# Altium schematic symbol library co2_meter_schematic_library.SchLib: 16 symbols
Pins are listed as number, name and electrical type; pins without a type are passive.

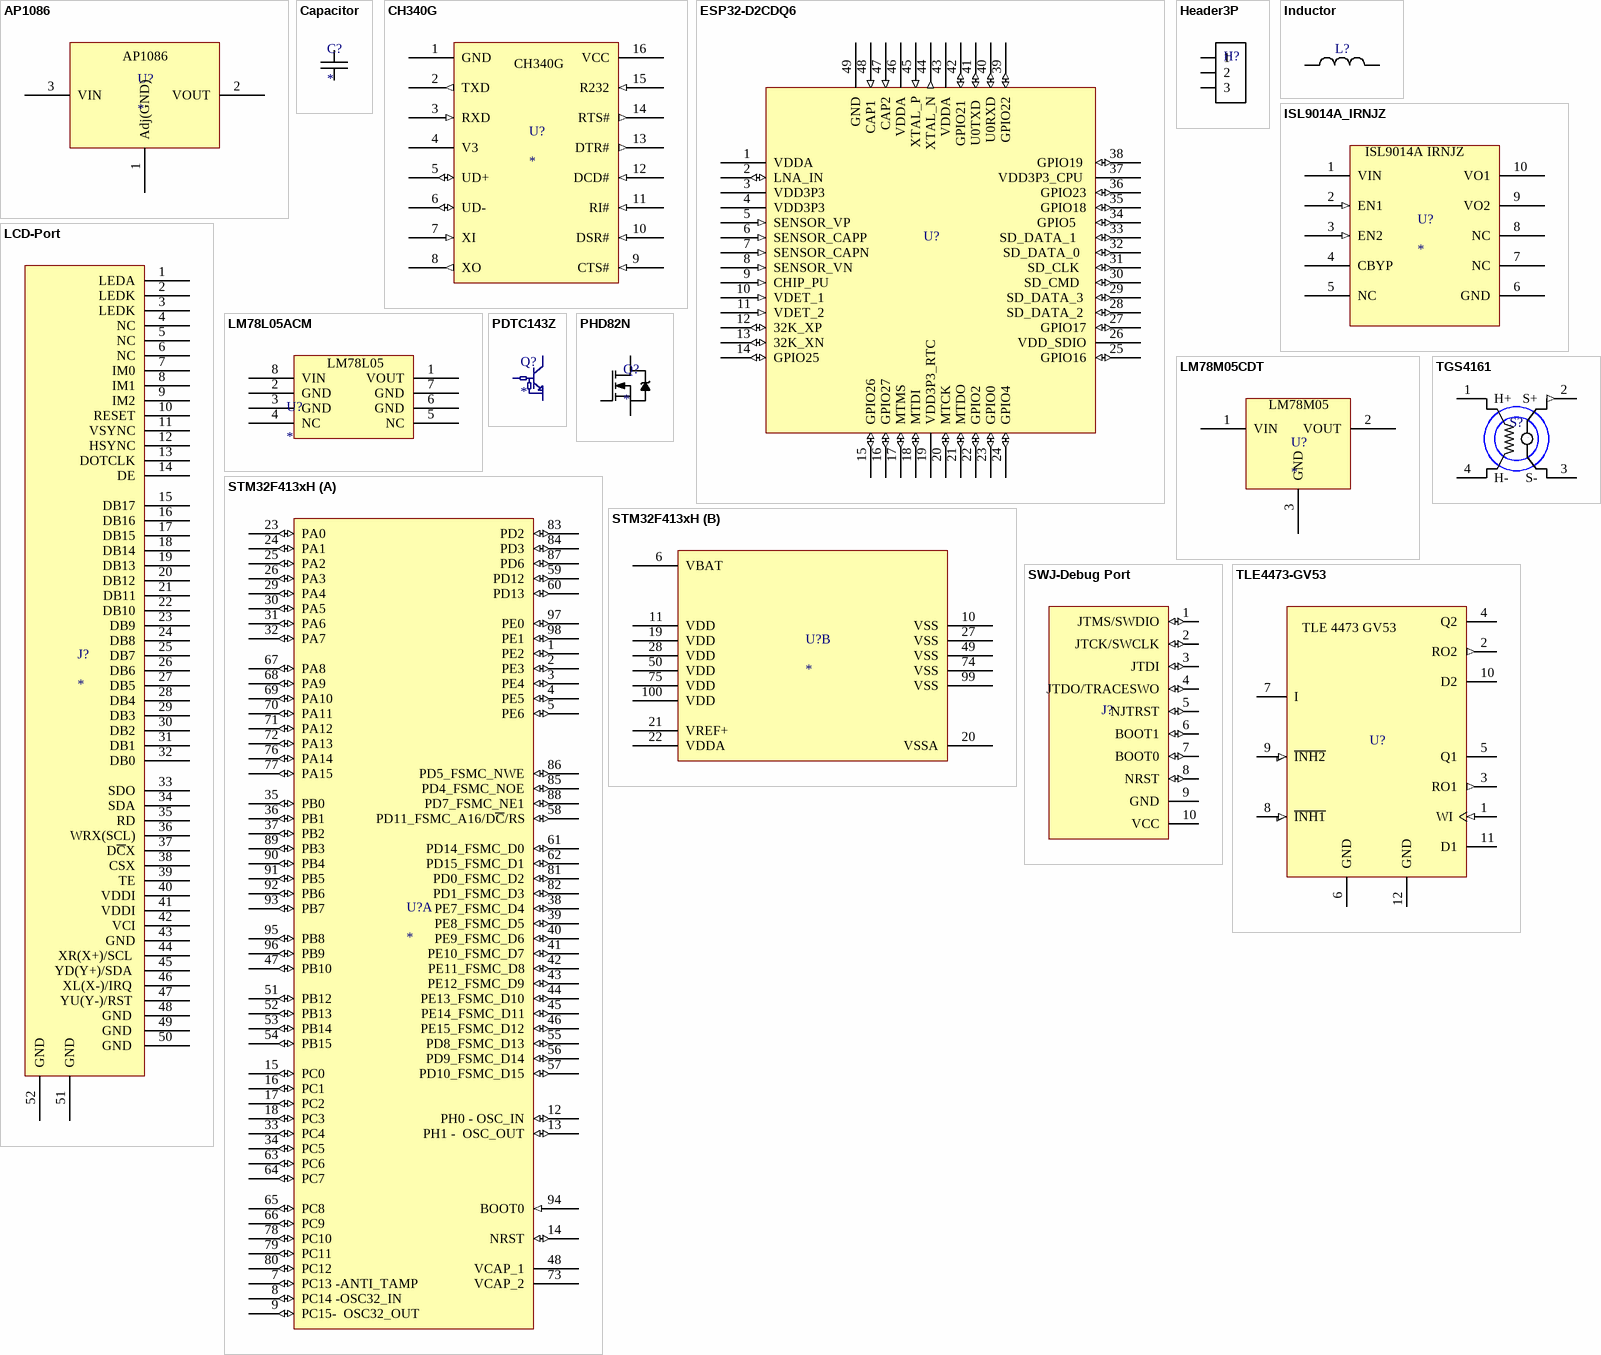
[diagram p0: symbols AP1086 to TLE4473-GV53]

## AP1086
designator U?
footprint TO263-3L (D-PAK/TO-263-3; 3 Leads (1 Cropped); Body 14.7 (inc. leads) x 10.2 mm (LxW max))
pins: 1 Adj(GND) (power) "Adjustable (Ground only for fixed mode)", 2 VOUT (power) "The output of the regulator. A minimum of 10uF capacitor must be connected  from this pin to ground to insure stability", 3 VIN (power) "The input pin of regulator.  Must  always be 1.4V higher than VOUT in order for the device to regulate properly."

## Capacitor
designator C?
Capacitor
footprint Capacitor (Chip Capacitor, Body 1.6x0.8mm, EIA 0603, IPC Medium Density)
pins: 1, 2

## CH340G
designator U?
USB bus conversion chip
footprint SOP16
pins: 1 GND (power) "Public ground, ground connection for USB", 2 TXD (out) "Transmit asynchronous data output", 3 RXD (in) "Receive asynchronous data input, built-in configurable  pull-up and pull-down resistor", 4 V3 (power) "Connect to VCC to input external power when 3.3V power  supply, connect to 0.1uF decoupling capacitor when 5V  power supply", 5 UD+ (io) "USB signal", 6 UD- (io) "USB signal", 7 XI (in) "Input of crystal oscillator, connect to crystal  and capacitor", 8 XO (out) "Output of crystal oscillator, connect to crystal and capacitor", 9 CTS# (in) "MODEM liaison input signal, clear to send, active  low(high)", 10 DSR# (in) "MODEM liaison input signal, data set ready, active  low(high)", 11 RI# (in) "MODEM liaison input signal, ring indicator , active  low(high)", 12 DCD# (in) "MODEM liaison input signal, data carrier detect, active  low(high)", 13 DTR# (out) "MODEM liaison output signal, data terminal ready, active  low(high)", 14 RTS# (out) "MODEM liaison output signal, request to send, active  low(high)", 15 R232 (in) "Assistant RS232 enable, active high,  built-in pull-down resistor", 16 VCC (power) "Positive power input port, requires an external 0.1uF power  decoupling capacitor"

## ESP32-D2CDQ6
designator U?  (value not drawn)
footprint QFN40P600X600X90_HS-49N (QFN, 48-Leads, Body 6.00x6.00mm, Pitch 0.40mm, Thermal Pad 4.30x4.30mm, IPC Medium Density)
pins: 1 VDDA (power) "Analog power supply (2.3V ~ 3.6V)", 2 LNA_IN (io) "V", 3 VDD3P3 (power) "Power supply amplifier (2.3V ~ 3.6V)", 4 VDD3P3 (power) "Power supply amplifier (2.3V ~ 3.6V)", 5 SENSOR_VP (in) "GPIO36, ADC_PRE_AMP, ADC1_CH0, RTC_GPIO0", 6 SENSOR_CAPP (in) "GPIO37, ADC_PRE_AMP, ADC1_CH1, RTC_GPIO1", 7 SENSOR_CAPN (in) "GPIO38, ADC1_CH2, ADC_PRE_AMP, RTC_GPIO2", 8 SENSOR_VN (in) "GPIO39, ADC1_CH3, ADC_PRE_AMP, RTC_GPIO3", 9 CHIP_PU (in) "Chip Enable (Active High)", 10 VDET_1 (in) "GPIO34, ADC1_CH6, RTC_GPIO4", 11 VDET_2 (in) "GPIO35, ADC1_CH7, RTC_GPIO5", 12 32K_XP (io) "GPIO32, 32K_XP (32.768 kHz crystal oscillator input),  ADC1_CH4, TOUCH9, RTC_GPIO9", 13 32K_XN (io) "GPIO33, 32K_XN (32.768 kHz crystal oscillator output),  ADC1_CH5, TOUCH8, RTC_GPIO8", 14 GPIO25 (io) "GPIO25, DAC_1, ADC2_CH8, RTC_GPIO6, EMAC_RXD0", 15 GPIO26 (io) "GPIO26, DAC_2, ADC2_CH9, RTC_GPIO7, EMAC_RXD1", 16 GPIO27 (io) "GPIO27, ADC2_CH7, TOUCH7, RTC_GPIO17, EMAC_RX_DV", 17 MTMS (io) "GPIO14, ADC2_CH6, TOUCH6, RTC_GPIO16, MTMS, HSPICLK,  HS2_CLK, SD_CLK, EMAC_TXD2", 18 MTDI (io) "GPIO12, ADC2_CH5, TOUCH5, RTC_GPIO15, MTDI, HSPIQ,  HS2_DATA2, SD_DATA2, EMAC_TXD3", 19 VDD3P3_RTC (power) "Input power supply for RTC IO (2.3 V ~ 3.6 V)", 20 MTCK (io) "GPIO13, ADC2_CH4, TOUCH4, RTC_GPIO14, MTCK, HSPID,  HS2_DATA3, SD_DATA3, EMAC_RX_ER", 21 MTDO (io) "GPIO15, ADC2_CH3, TOUCH3, RTC_GPIO13, MTDO, HSPICS0,  HS2_CMD, SD_CMD, EMAC_RXD3", 22 GPIO2 (io) "GPIO2, ADC2_CH2, TOUCH2, RTC_GPIO12, HSPIWP, HS2_DATA0,  SD_DATA0", 23 GPIO0 (io) "GPIO0, ADC2_CH1, TOUCH1, RTC_GPIO11, CLK_OUT1,  EMAC_TX_CLK", 24 GPIO4 (io) "GPIO4, ADC2_CH0, TOUCH0, RTC_GPIO10, HSPIHD, HS2_DATA1,  SD_DATA1, EMAC_TX_ER", 25 GPIO16 (io) "GPIO16, HS1_DATA4, U2RXD, EMAC_CLK_OUT", 26 VDD_SDIO (power) "Output power supply: 1.8 V or the same voltage as VDD3P3_RTC", 27 GPIO17 (io) "GPIO17, HS1_DATA5, U2TXD, EMAC_CLK_OUT_180", 28 SD_DATA_2  (io) "GPIO9, SD_DATA2, SPIHD, HS1_DATA2, U1RXD", 29 SD_DATA_3  (io) "GPIO10, SD_DATA3, SPIWP, HS1_DATA3, U1TXD", 30 SD_CMD   (io) "GPIO11, SD_CMD, SPICS0, HS1_CMD, U1RTS", 31 SD_CLK   (io) "GPIO6, SD_CLK, SPICLK, HS1_CLK, U1CTS", 32 SD_DATA_0   (io) "GPIO7, SD_DATA0, SPIQ, HS1_DATA0, U2RTS", 33 SD_DATA_1    (io) "GPIO8, SD_DATA1, SPID, HS1_DATA1, U2CTS", 34 GPIO5    (io) "GPIO5, VSPICS0, HS1_DATA6, EMAC_RX_CLK", 35 GPIO18 (io) "GPIO18, VSPICLK, HS1_DATA7", 36 GPIO23 (io) "GPIO23, VSPID, HS1_STROBE", 37 VDD3P3_CPU  (power) "Input power supply for CPU IO (1.8 V ~ 3.6 V)", 38 GPIO19  (io) "GPIO19, VSPIQ, U0CTS, EMAC_TXD0", 39 GPIO22 (io) "GPIO22, VSPIWP, U0RTS, EMAC_TXD1", 40 U0RXD (io) "GPIO3, U0RXD, CLK_OUT2", 41 U0TXD  (io) "GPIO1, U0TXD, CLK_OUT3, EMAC_RXD2", 42 GPIO21  (io) "GPIO21, VSPIHD, EMAC_TX_EN", 43 VDDA (power) "Analog power supply (2.3 V ~ 3.6 V)", 44 XTAL_N (out) "External crystal output", 45 XTAL_P (in) "External crystal input", 46 VDDA (power) "Analog power supply (2.3 V ~ 3.6 V", 47 CAP2 (in) "Connects to a 3 nF capacitor and 20 kΩ resistor in parallel to CAP1", 48 CAP1  (in) "Connects to a 10 nF series capacitor to ground", 49 GND (power) "Ground"

## Header3P
designator H?  (value not drawn)
Header, 2-pin
footprint HDR_1x3
pins: 1, 2, 3

## Inductor
designator L?  (value not drawn)
0603 Inductor
footprint INDUCTOR (Chip Ferrite, Body 1.6x0.8mm, 0603, IPC Medium Density)
pins: 1, 2

## ISL9014A_IRNJZ
designator U?
ISL9014A IRNJZ, Dual LDO, 3.3V and 2.8V, 300mA on both outputs
footprint 10LD3X3DFN (10 PIN DFPNL (DFN) Body 3x3mm, Pitch 0.50mm, IPC Medium Density)
pins: 1 VIN (power) "2.3-6.5V", 2 EN1 (in) "LDO-1 Enable.", 3 EN2 (in) "LDO-2 Enable.", 4 CBYP (power) "Reference Bypass Capacitor Pin", 5 NC "No Connection", 6 GND (power) "Connect to system ground. Connect to PCB Ground plane.", 7 NC "No Connection", 8 NC "No Connection", 9 VO2 (power) "LDO-2 Output: 2.8V 300mA", 10 VO1 (power) "LDO-1 Output: 3.3V 300mA"
text: ISL9014A IRNJZ

## LCD-Port
designator J?
3.5”TFT LCD Display Port (i80/6800/FSMC etc)
footprint ER-CON50HT-1 (50 pins 0.5mm pitch SMD horizontal type FPC ZIF)
pins: 1 LEDA (power) "Anode for LED backlighting", 2 LEDK (power) "Cathode for LED backlighting", 3 LEDK (power) "Cathode for LED backlighting", 4 NC "NO Connect", 5 NC "NO Connect", 6 NC "NO Connect", 7 IM0 "Select Interface Mode", 8 IM1 "Select Interface Mode", 9 IM2 "Select Interface Mode", 10 RESET "Reset Pin. Initialize the chip with a low input.", 11 VSYNC "Frame Synchronizing Signal For RGB Interface. Fix to DGND level when not in use.", 12 HSYNC "Line Synchronizing Signal For RGB Interface. Fix to DGND level when not in use.", 13 DOTCLK "Dot Clock Signal For RGB Interface. Fix to IOVCC level when not in use.", 14 DE "Data Enable Signal For RGB Interface. Fix to DGND level when not in use.", 15 DB17 "DATA BUS. Fix to DGND level when not in use.", 16 DB16 "DATA BUS. Fix to DGND level when not in use.", 17 DB15 "DATA BUS. Fix to DGND level when not in use.", 18 DB14 "DATA BUS. Fix to DGND level when not in use.", 19 DB13 "DATA BUS. Fix to DGND level when not in use.", 20 DB12 "DATA BUS. Fix to DGND level when not in use.", 21 DB11 "DATA BUS. Fix to DGND level when not in use.", 22 DB10 "DATA BUS. Fix to DGND level when not in use.", 23 DB9 "DATA BUS. Fix to DGND level when not in use.", 24 DB8 "DATA BUS. Fix to DGND level when not in use.", 25 DB7 "DATA BUS. Fix to DGND level when not in use.", 26 DB6 "DATA BUS. Fix to DGND level when not in use.", 27 DB5 "DATA BUS. Fix to DGND level when not in use.", 28 DB4 "DATA BUS. Fix to DGND level when not in use.", 29 DB3 "DATA BUS. Fix to DGND level when not in use.", 30 DB2 "DATA BUS. Fix to DGND level when not in use.", 31 DB1 "DATA BUS. Fix to DGND level when not in use.", 32 DB0 "DATA BUS. Fix to DGND level when not in use.", 33 SDO "Serial Output Signal. Leave the pin open when not in use.", 34 SDA "Serial interface : Serial input or serial data input/output bi-direction pin. Fix to DGND level when not in use.", 35 RD "Parallel interface：Read execution control pin. Fix to IOVCC when not in use.", 36 WRX(SCL) "Parallel interface：Write execution control pin ;  Serial interface :SCL pin as Serial Clock when operates in the serial interface  Fix to IOVCC when not in use.", 37 D~{C}X "Data/Command Selection pin. Fix to IOVCC when not in use.", 38 CSX "Chip Select Signal. Fix to IOVCC when not in use.", 39 TE "Tearing effect out pin synchronize MPU to frame writing. Leave the pin open when not in use.", 40 VDDI "Power Supply to the interface pins ,provide with 2.8V", 41 VDDI "Power Supply to the interface pins ,provide with 2.8V", 42 VCI "Logic power ,provide with 2.8V", 43 GND (power) "Ground", 44 XR(X+)/SCL  "Resistive touch panel output/ Capacitive touch SCL signal,I2C interface.", 45 YD(Y+)/SDA  "Resistive touch panel output/ Capacitive touch SDA signal, I2C interface", 46 XL(X-)/IRQ  "Resistive touch panel output /Capacitive touch pen interrupt signal when low.", 47 YU(Y-)/RST  "Resistive touch panel output/ Capacitive touch reset signal when low.", 48 GND  (power) "Ground", 49 GND  (power) "Ground", 50 GND  (power) "Ground", 51 GND (power) "Housing locker GND", 52 GND (power) "Housing locker GND"

## LM78L05ACM
designator U?
100-mA Fixed Output Linear Regulator
footprint SOIC_8 (SOIC 8 Pin)
pins: 1 VOUT (power) "Output voltage pin", 2 GND (power) "Ground", 3 GND (power) "Ground", 4 NC "No connection", 5 NC "No connection", 6 GND (power) "Ground", 7 GND (power) "Ground", 8 VIN  (power) "Input supply voltage pin"
text: LM78L05

## LM78M05CDT
designator U?
LM78L05
footprint TO-252 (NDP Package  3-Pin TO-252)
pins: 1 VIN  (power) "Input supply voltage pin", 2 VOUT (power) "Output supply voltage pin", 3 GND (power) "Ground"
text: LM78M05

## PDTC143Z
designator Q?
NPN Resistor-Equipped Transistor (RET)
footprint TO-236
pins: 1 B (power), 2 E (power), 3 C (power)

## PHD82N
designator Q?
PHD82N N-Channel MOSFET transistor
footprint TO-252_1
pins: 1 G, 2 S, 3 D

## STM32F413xH
designator U?
STM32F413VHT symbol for FSMC application with designated FSMC relevant pins
footprint LQFP100_STM32F4 (TSQFP, 100-Leads, Body 14.00x14.00mm, Pitch 0.50mm, IPC Medium Density)
part A pins: 1 PE2 (io), 2 PE3 (io), 3 PE4 (io), 4 PE5 (io), 5 PE6 (io), 7 PC13 -ANTI_TAMP (io), 8 PC14 -OSC32_IN (io), 9 PC15-  OSC32_OUT (io), 12 PH0 - OSC_IN (io), 13 PH1 -  OSC_OUT (io), 14 NRST (io), 15 PC0 (io), 16 PC1 (io), 17 PC2 (io), 18 PC3 (io), 23 PA0 (io), 24 PA1 (io), 25 PA2 (io), 26 PA3 (io), 29 PA4 (io), 30 PA5 (io), 31 PA6 (io), 32 PA7 (io), 33 PC4 (io), 34 PC5 (io), 35 PB0 (io), 36 PB1 (io), 37 PB2 (io), 38 PE7_FSMC_D4 (io), 39 PE8_FSMC_D5 (io), 40 PE9_FSMC_D6 (io), 41 PE10_FSMC_D7 (io), 42 PE11_FSMC_D8 (io), 43 PE12_FSMC_D9 (io), 44 PE13_FSMC_D10 (io), 45 PE14_FSMC_D11 (io), 46 PE15_FSMC_D12 (io), 47 PB10 (io), 48 VCAP_1 (power), 51 PB12 (io), 52 PB13 (io), 53 PB14 (io), 54 PB15 (io), 55 PD8_FSMC_D13 (io), 56 PD9_FSMC_D14 (io), 57 PD10_FSMC_D15 (io), 58 PD11_FSMC_A16/D~{C}/RS (io), 59 PD12 (io), 60 PD13 (io), 61 PD14_FSMC_D0 (io), 62 PD15_FSMC_D1 (io), 63 PC6 (io), 64 PC7 (io), 65 PC8 (io), 66 PC9 (io), 67 PA8 (io), 68 PA9 (io), 69 PA10 (io), 70 PA11 (io), 71 PA12 (io), 72 PA13 (io), 73 VCAP_2 (power), 76 PA14 (io), 77 PA15 (io), 78 PC10 (io), 79 PC11 (io), 80 PC12 (io), 81 PD0_FSMC_D2 (io), 82 PD1_FSMC_D3 (io), 83 PD2 (io), 84 PD3 (io), 85 PD4_FSMC_NOE (io), 86 PD5_FSMC_NWE (io), 87 PD6 (io), 88 PD7_FSMC_NE1 (io), 89 PB3 (io), 90 PB4 (io), 91 PB5 (io), 92 PB6 (io), 93 PB7 (io), 94 BOOT0 (in), 95 PB8 (io), 96 PB9 (io), 97 PE0 (io), 98 PE1 (io)
part B pins: 6 VBAT (power), 10 VSS (power), 11 VDD (power), 19 VDD (power), 20 VSSA (power), 21 VREF+ (power), 22 VDDA (power), 27 VSS (power), 28 VDD (power), 49 VSS (power), 50 VDD (power), 74 VSS (power), 75 VDD (power), 99 VSS (power), 100 VDD (power)

## SWJ-Debug Port
designator J?  (value not drawn)
10 pin Serial Wire JTAG Debug Port
footprint SWJ-DP connector (10 pin SWJ-DP PCB connector)
pins: 1 JTMS/SWDIO (io) "JTAG Test Mode Selection or Serial Wire Data Input/Output", 2 JTCK/SWCLK (io) "JTAG Test Clock or  Serial Wire Clock", 3 JTDI (io) "JTAG Test Data Input", 4 JTDO/TRACESWO (io) "JTAG Test Data Output or TRACESWO if async trace is enabled", 5 NJTRST (io) "JTAG Test nReset", 6 BOOT1 (io), 7 BOOT0 (io), 8 NRST (io) "BOOT0", 9 GND (power), 10 VCC (power)

## TGS4161
designator S?  (value not drawn)
Solid electrolyte type Carbon Dioxide sensor
footprint CO2_SENSOR (4 pin package for TGS4161 sensor)
pins: 1 H+ (power) "Heater (+)", 2 S+ (out) "Sensor electrode (+)", 3 S- "Sensor electrode (-)", 4 H- (power) "Heater (-)"

## TLE4473-GV53
designator U?  (value not drawn)
Dual Low Drop Voltage Regulator
footprint PG-DSO-12 (12 pin PG-DSO12 dual inline package with ground pad)
footprint PG-DSO-12NTS
pins: 1 WI (in) "Watchdog input. Input for watchdog pulses, positive edge  triggered", 2 RO2 (out) "Reset output for Q2. Open collector output", 3 RO1 (out) "Reset and watchdog output for Q1. Open collector output", 4 Q2 (power) "Output voltage 2 (5 V) Block to GND with a capacitor ≥ 22μF ESR<5Ω 10kHz or ≥ 10μF ESR<4Ω 10kHz", 5 Q1 (power) "Output voltage 1 (3.3 V) Block to GND with a capacitor ≥ 10μF ESR<5Ω 10kHz", 6 GND (power) "Not connected Connect to GND", 7 I (power) "Input voltage. Block to GND directly at the IC with a ceramic  capacitor", 8 ~{INH1} (in) "Inhibit input 1. Low level at INH2 and INH1 disables Q2 and Q1", 9 ~{INH2} (in) "Inhibit input 2. Low level disables Q2", 10 D2 "Reset Delay 2. Connect a capacitor to set reset delay for Q2", 11 D1 "Reset Delay. Connect a capacitor to GND to set reset delay and  watchdog timing for Q1", 12 GND (power) "Ground1"
text: TLE 4473 GV53